# EAGLE library part AT45DB021D (library mylib)
2Mb Serial Dataflash memory
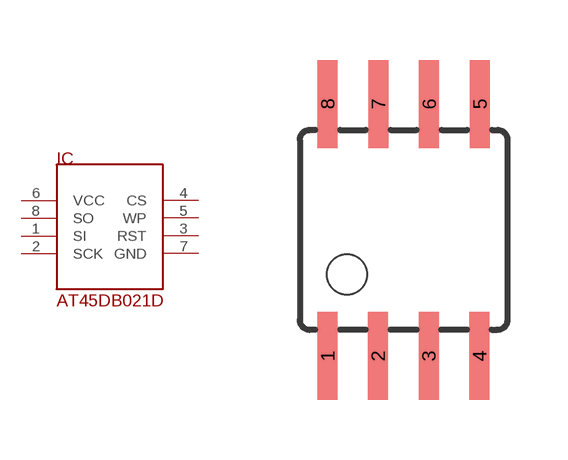
[diagram p2: symbol with the pads of SOIC8; footprint SOIC8]

Designator prefix IC

## AT45DB021D  [SOIC8]
1  SI
2  SCK
3  RST
4  CS
5  WP
6  VCC  pwr
7  GND  pwr
8  SO

## Footprint SOIC8 (pad centres in mm)
smd 0.5 x 2.2: 1 0.635,-0.614; 2 1.895,-0.614; 3 3.165,-0.614; 4 4.435,-0.614; 5 4.445,5.694; 6 3.175,5.694; 7 1.905,5.694; 8 0.635,5.694